# Altium schematic symbol library BUTTON_SW.SchLib: 4 symbols
Pins are listed as number, name and electrical type; pins without a type are passive.

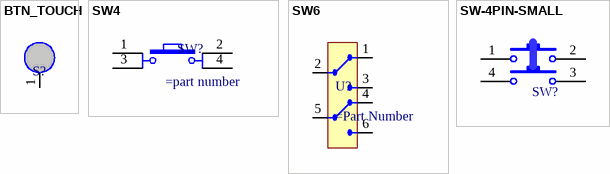
[diagram p0: symbols BTN_TOUCH to SW-4PIN-SMALL]

## BTN_TOUCH
designator S?  (value not drawn)
pins: 1

## SW4
designator SW?
pins: 1, 2, 3, 4

## SW6
designator U?
pins: 1, 2, 3 I/O2, 4, 5, 6 I/O3

## SW-4PIN-SMALL
designator SW?
pins: 1, 2, 3, 4